# Altium schematic symbol library SMD 4000 Series Components.SchLib: 126 symbols (part 3 of 3)
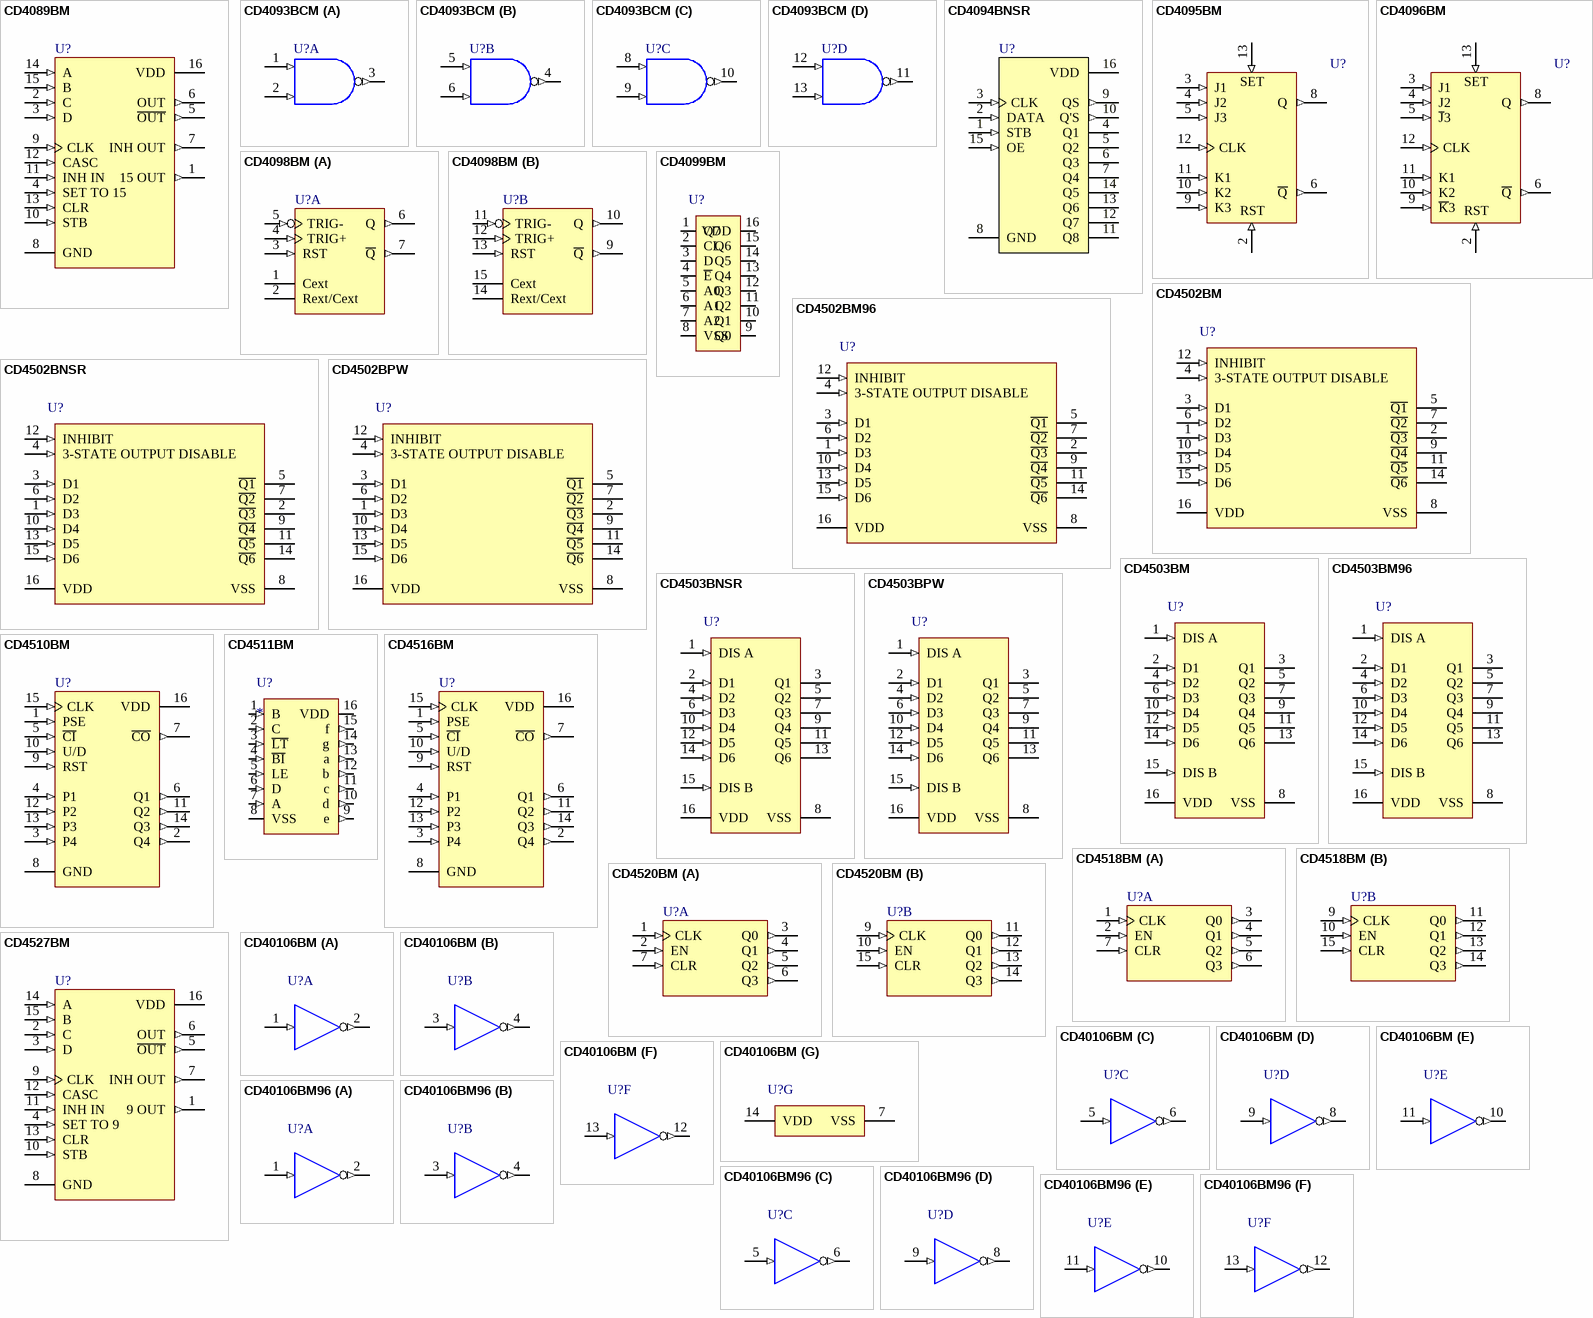
[diagram p12: symbols CD4089BM to CD40106BM96]

## CD4502BNSR
designator U?
CMOS Strobed Hex Inverter/Buffer with 3-State Outputs, NS0016A, LARGE T&R; Generic Part Number: CD4502B; Manufacturer: Texas Instruments; PartNumber: CD4502BNSR; VCC(Max)(V): 18; VCC(Min)(V): 3; ICC @ Nom Voltage(Max)(mA): 0.03; Bits(#): 6; F @ Nom Voltage(Max)(Mhz): 12; Rating: Catalog; Technology Family: CD4000; Voltage(Nom)(V): 5; Schmitt Trigger: No; Output Drive (IOL/IOH)(Max)(mA): -1/6; tpd @ Nom Voltage(Max)(ns): 380; DatasheetVersion: SCHS067B; PackageReference: NS0016A; Output Type: CMOS; Input Type: CMOS; Operating Temperature Range(C): -55 to 125; ComponentLink1Description: Manufacturer URL; ComponentLink1URL: http://www.ti.com/; ComponentLink2Description: Datasheet; ComponentLink2URL: http://www.ti.com/lit/ds/symlink/cd4502b.pdf; ComponentLink3Description: Package Specification; ComponentLink3URL: http://www.ti.com/lit/ml/msop002a/msop002a.pdf
footprint SOIC-16 (SOIC, 16-Leads, Body 9.9x3.9mm, Pitch 1.27mm, IPC Medium Density)
pins: 1 D3 (in), 2 ~{Q3} (hiz), 3 D1 (in), 4 3-STATE OUTPUT DISABLE (in), 5 ~{Q1} (hiz), 6 D2 (in), 7 ~{Q2} (hiz), 8 VSS (power), 9 ~{Q4} (hiz), 10 D4 (in), 11 ~{Q5} (hiz), 12 INHIBIT (in), 13 D5 (in), 14 ~{Q6} (hiz), 15 D6 (in), 16 VDD (power)

## CD4502BPW
designator U?
CMOS Strobed Hex Inverter/Buffer with 3-State Outputs, PW0016A, TUBE; Generic Part Number: CD4502B; Manufacturer: Texas Instruments; PartNumber: CD4502BPW; VCC(Max)(V): 18; VCC(Min)(V): 3; ICC @ Nom Voltage(Max)(mA): 0.03; Bits(#): 6; F @ Nom Voltage(Max)(Mhz): 12; Rating: Catalog; Technology Family: CD4000; Voltage(Nom)(V): 5; Schmitt Trigger: No; Output Drive (IOL/IOH)(Max)(mA): -1/6; tpd @ Nom Voltage(Max)(ns): 380; DatasheetVersion: SCHS067B; PackageReference: PW0016A; Output Type: CMOS; Input Type: CMOS; Operating Temperature Range(C): -55 to 125; ComponentLink1Description: Manufacturer URL; ComponentLink1URL: http://www.ti.com/; ComponentLink2Description: Datasheet; ComponentLink2URL: http://www.ti.com/lit/ds/symlink/cd4502b.pdf; ComponentLink3Description: Package Specification; ComponentLink3URL: http://www.ti.com/lit/ml/mpds361/mpds361.pdf
footprint SOP-16 (SOP, 16-Leads, Body 5.1x4.5mm, Pitch 0.65mm, IPC High Density)
pins: 1 D3 (in), 2 ~{Q3} (hiz), 3 D1 (in), 4 3-STATE OUTPUT DISABLE (in), 5 ~{Q1} (hiz), 6 D2 (in), 7 ~{Q2} (hiz), 8 VSS (power), 9 ~{Q4} (hiz), 10 D4 (in), 11 ~{Q5} (hiz), 12 INHIBIT (in), 13 D5 (in), 14 ~{Q6} (hiz), 15 D6 (in), 16 VDD (power)

## CD4503BM
designator U?
CMOS Hex Non-Inverting Buffer with 3-State Outputs, D0016A, TUBE; Generic Part Number: CD4503B; Manufacturer: Texas Instruments; PartNumber: CD4503BM; VCC(Min)(V): 3; VCC(Max)(V): 18; ICC @ Nom Voltage(Max)(mA): 0.06; Bits(#): 6; F @ Nom Voltage(Max)(Mhz): 8; Rating: Catalog; Voltage(Nom)(V): 10; tpd @ Nom Voltage(Max)(ns): 150; DatasheetVersion: SCHS068C; PackageReference: D0016A; Output Type: CMOS; Input Type: CMOS; Operating Temperature Range(C): -55 to 125; Code_JEDEC: MS-012 variation AC; ComponentLink1Description: Manufacturer URL; ComponentLink1URL: http://www.ti.com/; ComponentLink2Description: Datasheet; ComponentLink2URL: http://www.ti.com/lit/ds/symlink/cd4503b.pdf; ComponentLink3Description: Package Specification; ComponentLink3URL: http://www.ti.com/lit/ml/mpds178g/mpds178g.pdf
footprint SOIC-16 (SOIC, 16-Leads, Body 9.9x3.9mm, Pitch 1.27mm, IPC Medium Density)
pins: 1 DIS A (in), 2 D1 (in), 3 Q1 (hiz), 4 D2 (in), 5 Q2 (hiz), 6 D3 (in), 7 Q3 (hiz), 8 VSS (power), 9 Q4 (hiz), 10 D4 (in), 11 Q5 (hiz), 12 D5 (in), 13 Q6 (hiz), 14 D6 (in), 15 DIS B (in), 16 VDD (power)

## CD4503BM96
designator U?
CMOS Hex Non-Inverting Buffer with 3-State Outputs, D0016A, LARGE T&R; Generic Part Number: CD4503B; Manufacturer: Texas Instruments; PartNumber: CD4503BM96; VCC(Min)(V): 3; VCC(Max)(V): 18; ICC @ Nom Voltage(Max)(mA): 0.06; Bits(#): 6; F @ Nom Voltage(Max)(Mhz): 8; Rating: Catalog; Voltage(Nom)(V): 10; tpd @ Nom Voltage(Max)(ns): 150; DatasheetVersion: SCHS068C; PackageReference: D0016A; Output Type: CMOS; Input Type: CMOS; Operating Temperature Range(C): -55 to 125; Code_JEDEC: MS-012 variation AC; ComponentLink1Description: Manufacturer URL; ComponentLink1URL: http://www.ti.com/; ComponentLink2Description: Datasheet; ComponentLink2URL: http://www.ti.com/lit/ds/symlink/cd4503b.pdf; ComponentLink3Description: Package Specification; ComponentLink3URL: http://www.ti.com/lit/ml/mpds178g/mpds178g.pdf
footprint SOIC-16 (SOIC, 16-Leads, Body 9.9x3.9mm, Pitch 1.27mm, IPC Medium Density)
pins: 1 DIS A (in), 2 D1 (in), 3 Q1 (hiz), 4 D2 (in), 5 Q2 (hiz), 6 D3 (in), 7 Q3 (hiz), 8 VSS (power), 9 Q4 (hiz), 10 D4 (in), 11 Q5 (hiz), 12 D5 (in), 13 Q6 (hiz), 14 D6 (in), 15 DIS B (in), 16 VDD (power)

## CD4503BNSR
designator U?
CMOS Hex Non-Inverting Buffer with 3-State Outputs, NS0016A, LARGE T&R; Generic Part Number: CD4503B; Manufacturer: Texas Instruments; PartNumber: CD4503BNSR; VCC(Min)(V): 3; VCC(Max)(V): 18; ICC @ Nom Voltage(Max)(mA): 0.06; Bits(#): 6; F @ Nom Voltage(Max)(Mhz): 8; Rating: Catalog; Voltage(Nom)(V): 10; tpd @ Nom Voltage(Max)(ns): 150; DatasheetVersion: SCHS068C; PackageReference: NS0016A; Output Type: CMOS; Input Type: CMOS; Operating Temperature Range(C): -55 to 125; ComponentLink1Description: Manufacturer URL; ComponentLink1URL: http://www.ti.com/; ComponentLink2Description: Datasheet; ComponentLink2URL: http://www.ti.com/lit/ds/symlink/cd4503b.pdf; ComponentLink3Description: Package Specification; ComponentLink3URL: http://www.ti.com/lit/ml/msop002a/msop002a.pdf
footprint SOIC-16 (SOIC, 16-Leads, Body 9.9x3.9mm, Pitch 1.27mm, IPC Medium Density)
pins: 1 DIS A (in), 2 D1 (in), 3 Q1 (hiz), 4 D2 (in), 5 Q2 (hiz), 6 D3 (in), 7 Q3 (hiz), 8 VSS (power), 9 Q4 (hiz), 10 D4 (in), 11 Q5 (hiz), 12 D5 (in), 13 Q6 (hiz), 14 D6 (in), 15 DIS B (in), 16 VDD (power)

## CD4503BPW
designator U?
CMOS Hex Non-Inverting Buffer with 3-State Outputs, PW0016A, TUBE; Generic Part Number: CD4503B; Manufacturer: Texas Instruments; PartNumber: CD4503BPW; VCC(Min)(V): 3; VCC(Max)(V): 18; ICC @ Nom Voltage(Max)(mA): 0.06; Bits(#): 6; F @ Nom Voltage(Max)(Mhz): 8; Rating: Catalog; Voltage(Nom)(V): 10; tpd @ Nom Voltage(Max)(ns): 150; DatasheetVersion: SCHS068C; PackageReference: PW0016A; Output Type: CMOS; Input Type: CMOS; Operating Temperature Range(C): -55 to 125; Code_JEDEC: MO-153; ComponentLink1Description: Manufacturer URL; ComponentLink1URL: http://www.ti.com/; ComponentLink2Description: Datasheet; ComponentLink2URL: http://www.ti.com/lit/ds/symlink/cd4503b.pdf; ComponentLink3Description: Package Specification; ComponentLink3URL: http://www.ti.com/lit/ml/mpds361/mpds361.pdf
footprint SOP-16 (SOP, 16-Leads, Body 5.1x4.5mm, Pitch 0.65mm, IPC High Density)
pins: 1 DIS A (in), 2 D1 (in), 3 Q1 (hiz), 4 D2 (in), 5 Q2 (hiz), 6 D3 (in), 7 Q3 (hiz), 8 VSS (power), 9 Q4 (hiz), 10 D4 (in), 11 Q5 (hiz), 12 D5 (in), 13 Q6 (hiz), 14 D6 (in), 15 DIS B (in), 16 VDD (power)

## CD4510BM
designator U?
Presettable Up/Down Counter; Published: 8-Jun-2000; LatestRevisionDate: 06-Jun-2005; LatestRevisionNote: Stylized 3D Model Added.; DatasheetVersion: Nov-1996; PackageVersion: Apr-1996; PackageReference: DIP16; Publisher: Altium Limited; PackageDescription: DIP; 16 Leads; Row Spacing 7.62 mm; Pitch 2.54 mm; ComponentLink1Description: Manufacturer Link; ComponentLink1URL: http://www.st.com/
footprint SOIC-16 (SOIC, 16-Leads, Body 9.9x3.9mm, Pitch 1.27mm, IPC Medium Density)
pins: 1 PSE (in), 2 Q4 (out), 3 P4 (in), 4 P1 (in), 5 ~{CI} (in), 6 Q1 (out), 7 ~{CO} (out), 8 GND (power), 9 RST (in), 10 U/D (in), 11 Q2 (out), 12 P2 (in), 13 P3 (in), 14 Q3 (out), 15 CLK (in), 16 VDD (power)

## CD4511BM
designator U?
BCD to 7-Segment Latch/Decoder/Driver
footprint SOIC-16 (SOIC, 16-Leads, Body 9.9x3.9mm, Pitch 1.27mm, IPC Medium Density)
pins: 1 B (in), 2 C (in), 3 ~{LT} (in), 4 ~{BI} (in), 5 LE (in), 6 D (in), 7 A (in), 8 VSS, 9 e (out), 10 d (out), 11 c (out), 12 b (out), 13 a (out), 14 g (out), 15 f (out), 16 VDD

## CD4516BM
designator U?
Presettable Up/Down Counter; Published: 8-Jun-2000; LatestRevisionDate: 06-Jun-2005; LatestRevisionNote: Stylized 3D Model Added.; DatasheetVersion: Nov-1996; PackageVersion: Apr-1996; PackageReference: DIP16; Publisher: Altium Limited; PackageDescription: DIP; 16 Leads; Row Spacing 7.62 mm; Pitch 2.54 mm; ComponentLink1Description: Manufacturer Link; ComponentLink1URL: http://www.st.com/
footprint SOIC-16 (SOIC, 16-Leads, Body 9.9x3.9mm, Pitch 1.27mm, IPC Medium Density)
pins: 1 PSE (in), 2 Q4 (out), 3 P4 (in), 4 P1 (in), 5 ~{CI} (in), 6 Q1 (out), 7 ~{CO} (out), 8 GND (power), 9 RST (in), 10 U/D (in), 11 Q2 (out), 12 P2 (in), 13 P3 (in), 14 Q3 (out), 15 CLK (in), 16 VDD (power)

## CD4518BM
designator U?
Dual Decade Up-Counter; Published: 8-Jun-2000; LatestRevisionDate: 06-Jun-2005; LatestRevisionNote: Stylized 3D Model Added.; DatasheetVersion: Jun-1989; PackageVersion: Apr-1996; PackageReference: DIP16; Publisher: Altium Limited; PackageDescription: DIP; 16 Leads; Row Spacing 7.62 mm; Pitch 2.54 mm; ComponentLink1Description: Manufacturer Link; ComponentLink1URL: http://www.st.com/
footprint SOIC-16 (SOIC, 16-Leads, Body 9.9x3.9mm, Pitch 1.27mm, IPC Medium Density)
pins on every part: 8 GND (power) hidden to GND, 16 VDD (power) hidden to VDD
part A pins: 1 CLK (in), 2 EN (in), 3 Q0 (out), 4 Q1 (out), 5 Q2 (out), 6 Q3 (out), 7 CLR (in)
part B pins: 9 CLK (in), 10 EN (in), 11 Q0 (out), 12 Q1 (out), 13 Q2 (out), 14 Q3 (out), 15 CLR (in)

## CD4520BM
designator U?
Dual Binary Up-Counter; Published: 8-Jun-2000; LatestRevisionDate: 06-Jun-2005; LatestRevisionNote: Stylized 3D Model Added.; DatasheetVersion: Jun-1989; PackageVersion: Apr-1996; PackageReference: DIP16; Publisher: Altium Limited; PackageDescription: DIP; 16 Leads; Row Spacing 7.62 mm; Pitch 2.54 mm; ComponentLink1Description: Manufacturer Link; ComponentLink1URL: http://www.st.com/
footprint SOIC-16 (SOIC, 16-Leads, Body 9.9x3.9mm, Pitch 1.27mm, IPC Medium Density)
pins on every part: 8 GND (power) hidden to GND, 16 VDD (power) hidden to VDD
part A pins: 1 CLK (in), 2 EN (in), 3 Q0 (out), 4 Q1 (out), 5 Q2 (out), 6 Q3 (out), 7 CLR (in)
part B pins: 9 CLK (in), 10 EN (in), 11 Q0 (out), 12 Q1 (out), 13 Q2 (out), 14 Q3 (out), 15 CLR (in)

## CD4527BM
designator U?
BCD Rate Multiplexer; Published: 8-Jun-2000; LatestRevisionDate: 06-Jun-2005; LatestRevisionNote: Stylized 3D Model Added.; DatasheetVersion: Sep-1990; PackageVersion: Apr-1996; PackageReference: DIP16; Publisher: Altium Limited; PackageDescription: DIP; 16 Leads; Row Spacing 7.62 mm; Pitch 2.54 mm; ComponentLink1Description: Manufacturer Link; ComponentLink1URL: http://www.st.com/
footprint SOIC-16 (SOIC, 16-Leads, Body 9.9x3.9mm, Pitch 1.27mm, IPC Medium Density)
pins: 1 9 OUT (out), 2 C (in), 3 D (in), 4 SET TO 9 (in), 5 ~{OUT} (out), 6 OUT (out), 7 INH OUT (out), 8 GND (power), 9 CLK (in), 10 STB (in), 11 INH IN (in), 12 CASC (in), 13 CLR (in), 14 A (in), 15 B (in), 16 VDD (power)

## CD40106BM
designator U?
CMOS Hex Schmitt Triggers, D0014A, TUBE; Generic Part Number: CD40106B; Manufacturer: Texas Instruments; PartNumber: CD40106BM; VCC(Max)(V): 18; VCC(Min)(V): 3; ICC @ Nom Voltage(Max)(mA): 0.03; Bits(#): 6; F @ Nom Voltage(Max)(Mhz): 12; Rating: Catalog; Technology Family: CD4000; Voltage(Nom)(V): 5; Schmitt Trigger: Yes; Output Drive (IOL/IOH)(Max)(mA): -1/1; tpd @ Nom Voltage(Max)(ns): 280; DatasheetVersion: SCHS097D; PackageReference: D0014A; Output Type: CMOS; Input Type: CMOS; Operating Temperature Range(C): -55 to 125; ComponentLink1Description: Manufacturer URL; ComponentLink1URL: http://www.ti.com/; ComponentLink2Description: Datasheet; ComponentLink2URL: http://www.ti.com/lit/ds/symlink/cd40106b.pdf; ComponentLink3Description: Package Specification; ComponentLink3URL: http://www.ti.com/lit/ml/mpds177g/mpds177g.pdf
footprint SOIC-14 (SOIC, 14-Leads, Body 8.75x4mm, Pitch 1.27mm, IPC High Density)
part A pins: 1 A (in), 2 G=~{A} (out)
part B pins: 3 B (in), 4 H=~{B} (out)
part C pins: 5 C (in), 6 I=~{C} (out)
part D pins: 8 J=~{D} (out), 9 D (in)
part E pins: 10 K=~{E} (out), 11 E (in)
part F pins: 12 L=~{F} (out), 13 F (in)
part G pins: 7 VSS (power), 14 VDD (power)

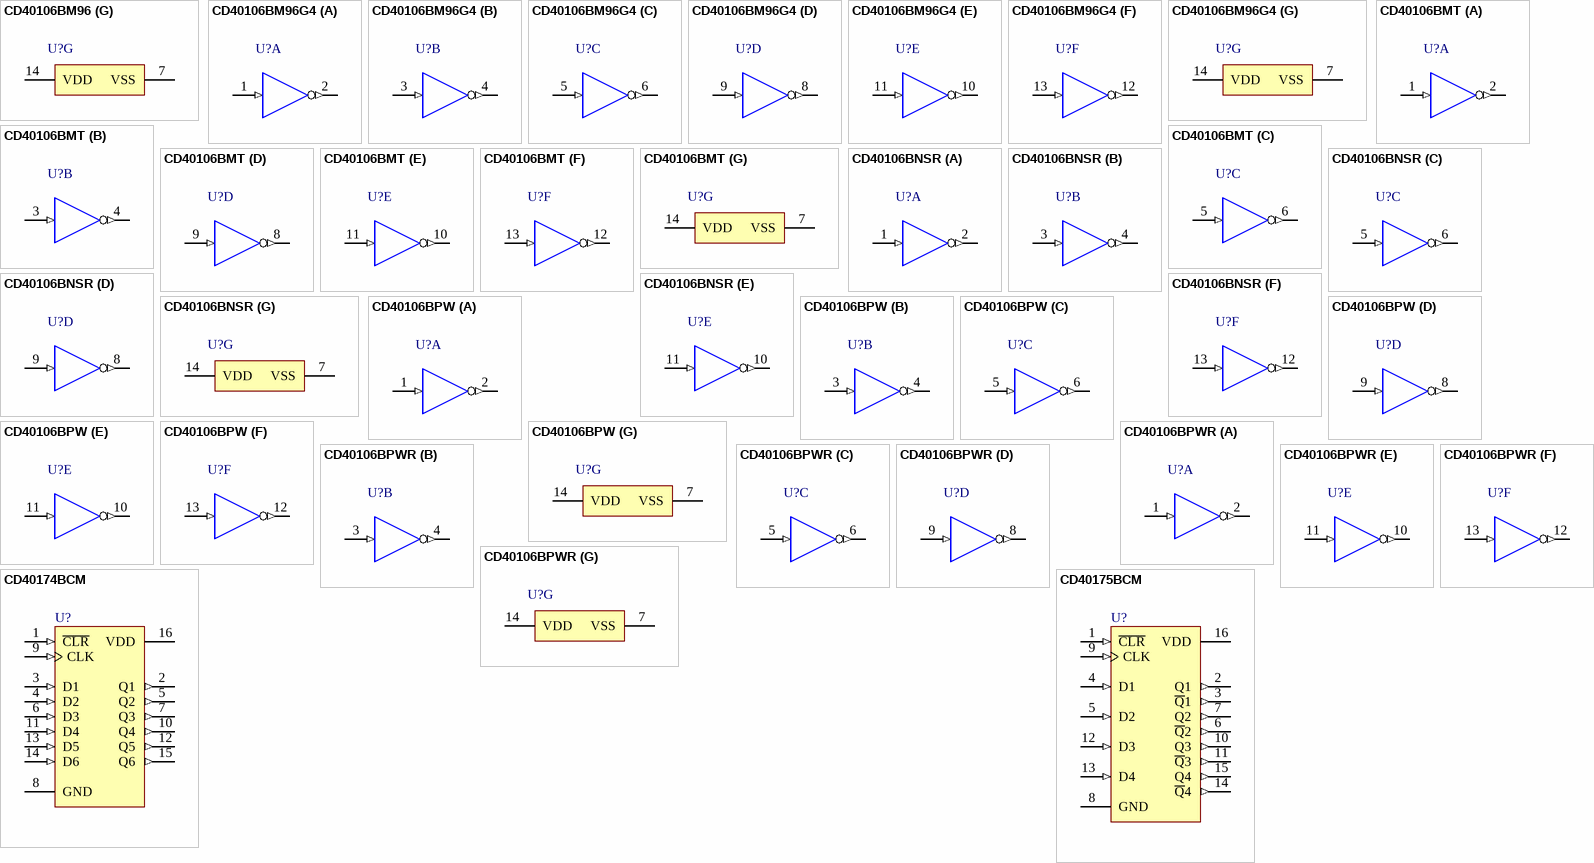
[diagram p10: symbols CD40106BM96 to CD40175BCM]

## CD40106BM96
designator U?
CMOS Hex Schmitt Triggers, D0014A, LARGE T&R; Generic Part Number: CD40106B; Manufacturer: Texas Instruments; PartNumber: CD40106BM96; VCC(Max)(V): 18; VCC(Min)(V): 3; ICC @ Nom Voltage(Max)(mA): 0.03; Bits(#): 6; F @ Nom Voltage(Max)(Mhz): 12; Rating: Catalog; Technology Family: CD4000; Voltage(Nom)(V): 5; Schmitt Trigger: Yes; Output Drive (IOL/IOH)(Max)(mA): -1/1; tpd @ Nom Voltage(Max)(ns): 280; DatasheetVersion: SCHS097D; PackageReference: D0014A; Output Type: CMOS; Input Type: CMOS; Operating Temperature Range(C): -55 to 125; ComponentLink1Description: Manufacturer URL; ComponentLink1URL: http://www.ti.com/; ComponentLink2Description: Datasheet; ComponentLink2URL: http://www.ti.com/lit/ds/symlink/cd40106b.pdf; ComponentLink3Description: Package Specification; ComponentLink3URL: http://www.ti.com/lit/ml/mpds177g/mpds177g.pdf
footprint SOIC-14 (SOIC, 14-Leads, Body 8.75x4mm, Pitch 1.27mm, IPC High Density)
part A pins: 1 A (in), 2 G=~{A} (out)
part B pins: 3 B (in), 4 H=~{B} (out)
part C pins: 5 C (in), 6 I=~{C} (out)
part D pins: 8 J=~{D} (out), 9 D (in)
part E pins: 10 K=~{E} (out), 11 E (in)
part F pins: 12 L=~{F} (out), 13 F (in)
part G pins: 7 VSS (power), 14 VDD (power)

## CD40106BM96G4
designator U?
CMOS Hex Schmitt Triggers, D0014A, LARGE T&R; Generic Part Number: CD40106B; Manufacturer: Texas Instruments; PartNumber: CD40106BM96G4; VCC(Max)(V): 18; VCC(Min)(V): 3; ICC @ Nom Voltage(Max)(mA): 0.03; Bits(#): 6; F @ Nom Voltage(Max)(Mhz): 12; Rating: Catalog; Technology Family: CD4000; Voltage(Nom)(V): 5; Schmitt Trigger: Yes; Output Drive (IOL/IOH)(Max)(mA): -1/1; tpd @ Nom Voltage(Max)(ns): 280; DatasheetVersion: SCHS097D; PackageReference: D0014A; Output Type: CMOS; Input Type: CMOS; Operating Temperature Range(C): -55 to 125; ComponentLink1Description: Manufacturer URL; ComponentLink1URL: http://www.ti.com/; ComponentLink2Description: Datasheet; ComponentLink2URL: http://www.ti.com/lit/ds/symlink/cd40106b.pdf; ComponentLink3Description: Package Specification; ComponentLink3URL: http://www.ti.com/lit/ml/mpds177g/mpds177g.pdf
footprint SOIC-14 (SOIC, 14-Leads, Body 8.75x4mm, Pitch 1.27mm, IPC High Density)
part A pins: 1 A (in), 2 G=~{A} (out)
part B pins: 3 B (in), 4 H=~{B} (out)
part C pins: 5 C (in), 6 I=~{C} (out)
part D pins: 8 J=~{D} (out), 9 D (in)
part E pins: 10 K=~{E} (out), 11 E (in)
part F pins: 12 L=~{F} (out), 13 F (in)
part G pins: 7 VSS (power), 14 VDD (power)

## CD40106BMT
designator U?
CMOS Hex Schmitt Triggers, D0014A, SMALL T&R; Generic Part Number: CD40106B; Manufacturer: Texas Instruments; PartNumber: CD40106BMT; VCC(Max)(V): 18; VCC(Min)(V): 3; ICC @ Nom Voltage(Max)(mA): 0.03; Bits(#): 6; F @ Nom Voltage(Max)(Mhz): 12; Rating: Catalog; Technology Family: CD4000; Voltage(Nom)(V): 5; Schmitt Trigger: Yes; Output Drive (IOL/IOH)(Max)(mA): -1/1; tpd @ Nom Voltage(Max)(ns): 280; DatasheetVersion: SCHS097D; PackageReference: D0014A; Output Type: CMOS; Input Type: CMOS; Operating Temperature Range(C): -55 to 125; ComponentLink1Description: Manufacturer URL; ComponentLink1URL: http://www.ti.com/; ComponentLink2Description: Datasheet; ComponentLink2URL: http://www.ti.com/lit/ds/symlink/cd40106b.pdf; ComponentLink3Description: Package Specification; ComponentLink3URL: http://www.ti.com/lit/ml/mpds177g/mpds177g.pdf
footprint SOIC-14 (SOIC, 14-Leads, Body 8.75x4mm, Pitch 1.27mm, IPC High Density)
part A pins: 1 A (in), 2 G=~{A} (out)
part B pins: 3 B (in), 4 H=~{B} (out)
part C pins: 5 C (in), 6 I=~{C} (out)
part D pins: 8 J=~{D} (out), 9 D (in)
part E pins: 10 K=~{E} (out), 11 E (in)
part F pins: 12 L=~{F} (out), 13 F (in)
part G pins: 7 VSS (power), 14 VDD (power)

## CD40106BNSR
designator U?
CMOS Hex Schmitt Triggers, NS0014A, LARGE T&R; Generic Part Number: CD40106B; Manufacturer: Texas Instruments; PartNumber: CD40106BNSR; VCC(Max)(V): 18; VCC(Min)(V): 3; ICC @ Nom Voltage(Max)(mA): 0.03; Bits(#): 6; F @ Nom Voltage(Max)(Mhz): 12; Rating: Catalog; Technology Family: CD4000; Voltage(Nom)(V): 5; Schmitt Trigger: Yes; Output Drive (IOL/IOH)(Max)(mA): -1/1; tpd @ Nom Voltage(Max)(ns): 280; DatasheetVersion: SCHS097D; PackageReference: NS0014A; Output Type: CMOS; Input Type: CMOS; Operating Temperature Range(C): -55 to 125; ComponentLink1Description: Manufacturer URL; ComponentLink1URL: http://www.ti.com/; ComponentLink2Description: Datasheet; ComponentLink2URL: http://www.ti.com/lit/ds/symlink/cd40106b.pdf; ComponentLink3Description: Package Specification; ComponentLink3URL: http://www.ti.com/lit/ml/msop002a/msop002a.pdf
footprint SOIC-14 (SOIC, 14-Leads, Body 8.75x4mm, Pitch 1.27mm, IPC High Density)
part A pins: 1 A (in), 2 G=~{A} (out)
part B pins: 3 B (in), 4 H=~{B} (out)
part C pins: 5 C (in), 6 I=~{C} (out)
part D pins: 8 J=~{D} (out), 9 D (in)
part E pins: 10 K=~{E} (out), 11 E (in)
part F pins: 12 L=~{F} (out), 13 F (in)
part G pins: 7 VSS (power), 14 VDD (power)

## CD40106BPW
designator U?
CMOS Hex Schmitt Triggers, PW0014A, TUBE; Generic Part Number: CD40106B; Manufacturer: Texas Instruments; PartNumber: CD40106BPW; VCC(Max)(V): 18; VCC(Min)(V): 3; ICC @ Nom Voltage(Max)(mA): 0.03; Bits(#): 6; F @ Nom Voltage(Max)(Mhz): 12; Rating: Catalog; Technology Family: CD4000; Voltage(Nom)(V): 5; Schmitt Trigger: Yes; Output Drive (IOL/IOH)(Max)(mA): -1/1; tpd @ Nom Voltage(Max)(ns): 280; DatasheetVersion: SCHS097D; PackageReference: PW0014A; Output Type: CMOS; Input Type: CMOS; Operating Temperature Range(C): -55 to 125; ComponentLink1Description: Manufacturer URL; ComponentLink1URL: http://www.ti.com/; ComponentLink2Description: Datasheet; ComponentLink2URL: http://www.ti.com/lit/ds/symlink/cd40106b.pdf; ComponentLink3Description: Package Specification; ComponentLink3URL: http://www.ti.com/lit/ml/mpds360/mpds360.pdf
footprint SOP-14 (SOP, 14-Leads, Body 5.1x4.5mm, Pitch 0.65mm, IPC High Density)
part A pins: 1 A (in), 2 G=~{A} (out)
part B pins: 3 B (in), 4 H=~{B} (out)
part C pins: 5 C (in), 6 I=~{C} (out)
part D pins: 8 J=~{D} (out), 9 D (in)
part E pins: 10 K=~{E} (out), 11 E (in)
part F pins: 12 L=~{F} (out), 13 F (in)
part G pins: 7 VSS (power), 14 VDD (power)

## CD40106BPWR
designator U?
CMOS Hex Schmitt Triggers, PW0014A, LARGE T&R; Generic Part Number: CD40106B; Manufacturer: Texas Instruments; PartNumber: CD40106BPWR; VCC(Max)(V): 18; VCC(Min)(V): 3; ICC @ Nom Voltage(Max)(mA): 0.03; Bits(#): 6; F @ Nom Voltage(Max)(Mhz): 12; Rating: Catalog; Technology Family: CD4000; Voltage(Nom)(V): 5; Schmitt Trigger: Yes; Output Drive (IOL/IOH)(Max)(mA): -1/1; tpd @ Nom Voltage(Max)(ns): 280; DatasheetVersion: SCHS097D; PackageReference: PW0014A; Output Type: CMOS; Input Type: CMOS; Operating Temperature Range(C): -55 to 125; ComponentLink1Description: Manufacturer URL; ComponentLink1URL: http://www.ti.com/; ComponentLink2Description: Datasheet; ComponentLink2URL: http://www.ti.com/lit/ds/symlink/cd40106b.pdf; ComponentLink3Description: Package Specification; ComponentLink3URL: http://www.ti.com/lit/ml/mpds360/mpds360.pdf
footprint SOIC-14 (SOIC, 14-Leads, Body 8.75x4mm, Pitch 1.27mm, IPC High Density)
footprint SOP-14 (SOP, 14-Leads, Body 5.1x4.5mm, Pitch 0.65mm, IPC High Density)
part A pins: 1 A (in), 2 G=~{A} (out)
part B pins: 3 B (in), 4 H=~{B} (out)
part C pins: 5 C (in), 6 I=~{C} (out)
part D pins: 8 J=~{D} (out), 9 D (in)
part E pins: 10 K=~{E} (out), 11 E (in)
part F pins: 12 L=~{F} (out), 13 F (in)
part G pins: 7 VSS (power), 14 VDD (power)

## CD40174BCM
designator U?
Hex D-Type Flip-Flop; Published: 17-Jul-2002; LatestRevisionDate: 13-Apr-2006; LatestRevisionNote: IPC-7351 Footprint Added.; DatasheetVersion: Jan-1999; PackageVersion: 2000; PackageReference: M16A; Publisher: Altium Limited; PackageDescription: 16-Pin Small Outline Integrated Circuit 1.27 mm Pitch; Code_IPC: SOIC127P600-16; ComponentLink1Description: Manufacturer Link; ComponentLink1URL: http://www.fairchildsemi.com/; ComponentLink2Description: Datasheet; ComponentLink2URL: http://www.fairchildsemi.com/ds/CD%2FCD40174BC.pdf
footprint SOIC-16 (SOIC, 16-Leads, Body 9.9x3.9mm, Pitch 1.27mm, IPC Medium Density)
pins: 1 ~{CLR} (in), 2 Q1 (out), 3 D1 (in), 4 D2 (in), 5 Q2 (out), 6 D3 (in), 7 Q3 (out), 8 GND (power), 9 CLK (in), 10 Q4 (out), 11 D4 (in), 12 Q5 (out), 13 D5 (in), 14 D6 (in), 15 Q6 (out), 16 VDD (power)

## CD40175BCM
designator U?
Quad D-Type Flip-Flop; Published: 17-Jul-2002; LatestRevisionDate: 13-Apr-2006; LatestRevisionNote: IPC-7351 Footprint Added.; DatasheetVersion: Jan-1999; PackageVersion: 2000; PackageReference: M16A; Publisher: Altium Limited; PackageDescription: 16-Pin Small Outline Integrated Circuit 1.27 mm Pitch; Code_IPC: SOIC127P600-16; ComponentLink1Description: Manufacturer Link; ComponentLink1URL: http://www.fairchildsemi.com/; ComponentLink2Description: Datasheet; ComponentLink2URL: http://www.fairchildsemi.com/ds/CD%2FCD40174BC.pdf
footprint SOIC-16 (SOIC, 16-Leads, Body 9.9x3.9mm, Pitch 1.27mm, IPC Medium Density)
pins: 1 ~{CLR} (in), 2 Q1 (out), 3 ~{Q}1 (out), 4 D1 (in), 5 D2 (in), 6 ~{Q}2 (out), 7 Q2 (out), 8 GND (power), 9 CLK (in), 10 Q3 (out), 11 ~{Q}3 (out), 12 D3 (in), 13 D4 (in), 14 ~{Q}4 (out), 15 Q4 (out), 16 VDD (power)